# Altium footprint library ADM2582EBRWZ.PcbLib: 3 footprints
Each footprint in its own frame and in the unit in brackets; x right, y up, seen from the top. Pads: shape width x height; smd on the part's side, far side on the other; paste and mask are expansions set on the pad; w line width, h text height; cw(c..) or ccw(c..) is an arc to the next point about the centre after c.
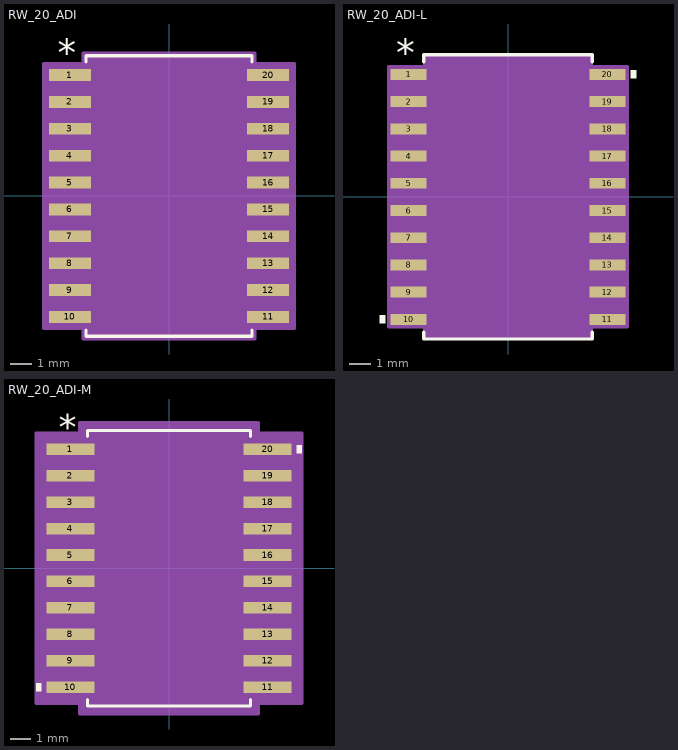
[diagram p0: the footprints below, top view; thin cyan lines are the x and y axes]

## RW_20_ADI [mil]
pads (20):
  rect 78x22 smd paste+0 mask+0: 1(-184.5,225) 2(-184.5,175) 3(-184.5,125) 4(-184.5,75) 5(-184.5,25) 6(-184.5,-25) 7(-184.5,-75) 8(-184.5,-125) 9(-184.5,-175) 10(-184.5,-225) 11(184.5,-225) 12(184.5,-175) 13(184.5,-125) 14(184.5,-75) 15(184.5,-25) 16(184.5,25) 17(184.5,75) 18(184.5,125) 19(184.5,175) 20(184.5,225)
Top Overlay:
  lines w6: -154.5,-249.1 -154.5,-261 154.5,-261 154.5,-249.1 ; -154.5,249.1 -154.5,261 154.5,261 154.5,249.1
  text "*" at -207,242 h50
Mechanical 13:
  lines w0: -12,256 ccw(c0,256) 12,256
  lines w1: -209.5,-235 -209.5,-215 -149.5,-215 -149.5,-235 -209.5,-235 ; -209.5,-185 -209.5,-165 -149.5,-165 -149.5,-185 -209.5,-185 ; -209.5,-135 -209.5,-115 -149.5,-115 -149.5,-135 -209.5,-135 ; -209.5,-85 -209.5,-65 -149.5,-65 -149.5,-85 -209.5,-85 ; -209.5,-35 -209.5,-15 -149.5,-15 -149.5,-35 -209.5,-35 ; -209.5,15 -209.5,35 -149.5,35 -149.5,15 -209.5,15 ; -209.5,65 -209.5,85 -149.5,85 -149.5,65 -209.5,65 ; -209.5,115 -209.5,135 -149.5,135 -149.5,115 -209.5,115 ; -209.5,165 -209.5,185 -149.5,185 -149.5,165 -209.5,165 ; -209.5,215 -209.5,235 -149.5,235 -149.5,215 -209.5,215 ; -149.5,-256 149.5,-256 149.5,256 -149.5,256 -149.5,-256 ; 149.5,-235 149.5,-215 209.5,-215 209.5,-235 149.5,-235 ; 149.5,-185 149.5,-165 209.5,-165 209.5,-185 149.5,-185 ; 149.5,-135 149.5,-115 209.5,-115 209.5,-135 149.5,-135 ; 149.5,-85 149.5,-65 209.5,-65 209.5,-85 149.5,-85 ; 149.5,-35 149.5,-15 209.5,-15 209.5,-35 149.5,-35 ; 149.5,15 149.5,35 209.5,35 209.5,15 149.5,15 ; 149.5,65 149.5,85 209.5,85 209.5,65 149.5,65 ; 149.5,115 149.5,135 209.5,135 209.5,115 149.5,115 ; 149.5,165 149.5,185 209.5,185 209.5,165 149.5,165 ; 149.5,215 149.5,235 209.5,235 209.5,215 149.5,215
  text "*" at -147,203 h50
Mechanical 15:
  region: -159.5,-246 -233.5,-246 -233.5,246 -159.5,246 -159.5,266 159.5,266 159.5,246 233.5,246 233.5,-246 159.5,-246 159.5,-266 -159.5,-266
  lines w6: -233.5,-246 -233.5,246 -159.5,246 -159.5,266 159.5,266 159.5,246 233.5,246 233.5,-246 159.5,-246 159.5,-266 -159.5,-266 -159.5,-246 -233.5,-246
3D body "RW_20_ADI.step": height 104.09, standoff 0, extent -209.49,-255.98 209.49,255.98

## RW_20_ADI-L [mil]
pads (20):
  rect 66x20 smd paste+0 mask+0: 1(-182.5,225) 2(-182.5,175) 3(-182.5,125) 4(-182.5,75) 5(-182.5,25) 6(-182.5,-25) 7(-182.5,-75) 8(-182.5,-125) 9(-182.5,-175) 10(-182.5,-225) 11(182.5,-225) 12(182.5,-175) 13(182.5,-125) 14(182.5,-75) 15(182.5,-25) 16(182.5,25) 17(182.5,75) 18(182.5,125) 19(182.5,175) 20(182.5,225)
Top Overlay:
  region: -225.5,-217.5 -235.5,-217.5 -235.5,-232.5 -225.5,-232.5
  region: 225.5,232.5 235.5,232.5 235.5,217.5 225.5,217.5
  lines w6: -154.5,-248.1 -154.5,-261 154.5,-261 154.5,-248.1 ; -154.5,248.1 -154.5,261 154.5,261 154.5,248.1
  text "*" at -205,240 h50
Mechanical 13:
  lines w0: -12,256 ccw(c0,256) 12,256
  lines w1: -209.5,-235 -209.5,-215 -149.5,-215 -149.5,-235 -209.5,-235 ; -209.5,-185 -209.5,-165 -149.5,-165 -149.5,-185 -209.5,-185 ; -209.5,-135 -209.5,-115 -149.5,-115 -149.5,-135 -209.5,-135 ; -209.5,-85 -209.5,-65 -149.5,-65 -149.5,-85 -209.5,-85 ; -209.5,-35 -209.5,-15 -149.5,-15 -149.5,-35 -209.5,-35 ; -209.5,15 -209.5,35 -149.5,35 -149.5,15 -209.5,15 ; -209.5,65 -209.5,85 -149.5,85 -149.5,65 -209.5,65 ; -209.5,115 -209.5,135 -149.5,135 -149.5,115 -209.5,115 ; -209.5,165 -209.5,185 -149.5,185 -149.5,165 -209.5,165 ; -209.5,215 -209.5,235 -149.5,235 -149.5,215 -209.5,215 ; -149.5,-256 149.5,-256 149.5,256 -149.5,256 -149.5,-256 ; 149.5,-235 149.5,-215 209.5,-215 209.5,-235 149.5,-235 ; 149.5,-185 149.5,-165 209.5,-165 209.5,-185 149.5,-185 ; 149.5,-135 149.5,-115 209.5,-115 209.5,-135 149.5,-135 ; 149.5,-85 149.5,-65 209.5,-65 209.5,-85 149.5,-85 ; 149.5,-35 149.5,-15 209.5,-15 209.5,-35 149.5,-35 ; 149.5,15 149.5,35 209.5,35 209.5,15 149.5,15 ; 149.5,65 149.5,85 209.5,85 209.5,65 149.5,65 ; 149.5,115 149.5,135 209.5,135 209.5,115 149.5,115 ; 149.5,165 149.5,185 209.5,185 209.5,165 149.5,165 ; 149.5,215 149.5,235 209.5,235 209.5,215 149.5,215
  text "*" at -147,203 h50
Mechanical 15:
  region: -153.5,-239 -219.5,-239 -219.5,239 -153.5,239 -153.5,260 153.5,260 153.5,239 219.5,239 219.5,-239 153.5,-239 153.5,-260 -153.5,-260
  lines w6: -219.5,-239 -219.5,239 -153.5,239 -153.5,260 153.5,260 153.5,239 219.5,239 219.5,-239 153.5,-239 153.5,-260 -153.5,-260 -153.5,-239 -219.5,-239
3D body "RW_20_ADI.step": height 104.09, standoff 0, extent -209.49,-255.98 209.49,255.98

## RW_20_ADI-M [mil]
pads (20):
  rect 90x22 smd paste+0 mask+0: 1(-186.5,225) 2(-186.5,175) 3(-186.5,125) 4(-186.5,75) 5(-186.5,25) 6(-186.5,-25) 7(-186.5,-75) 8(-186.5,-125) 9(-186.5,-175) 10(-186.5,-225) 11(186.5,-225) 12(186.5,-175) 13(186.5,-125) 14(186.5,-75) 15(186.5,-25) 16(186.5,25) 17(186.5,75) 18(186.5,125) 19(186.5,175) 20(186.5,225)
Top Overlay:
  region: -241.5,-217.5 -251.5,-217.5 -251.5,-232.5 -241.5,-232.5
  region: 241.5,232.5 251.5,232.5 251.5,217.5 241.5,217.5
  lines w6: -154.5,-249.1 -154.5,-261 154.5,-261 154.5,-249.1 ; -154.5,249.1 -154.5,261 154.5,261 154.5,249.1
  text "*" at -209,242 h50
Mechanical 13:
  lines w0: -12,256 ccw(c0,256) 12,256
  lines w1: -209.5,-235 -209.5,-215 -149.5,-215 -149.5,-235 -209.5,-235 ; -209.5,-185 -209.5,-165 -149.5,-165 -149.5,-185 -209.5,-185 ; -209.5,-135 -209.5,-115 -149.5,-115 -149.5,-135 -209.5,-135 ; -209.5,-85 -209.5,-65 -149.5,-65 -149.5,-85 -209.5,-85 ; -209.5,-35 -209.5,-15 -149.5,-15 -149.5,-35 -209.5,-35 ; -209.5,15 -209.5,35 -149.5,35 -149.5,15 -209.5,15 ; -209.5,65 -209.5,85 -149.5,85 -149.5,65 -209.5,65 ; -209.5,115 -209.5,135 -149.5,135 -149.5,115 -209.5,115 ; -209.5,165 -209.5,185 -149.5,185 -149.5,165 -209.5,165 ; -209.5,215 -209.5,235 -149.5,235 -149.5,215 -209.5,215 ; -149.5,-256 149.5,-256 149.5,256 -149.5,256 -149.5,-256 ; 149.5,-235 149.5,-215 209.5,-215 209.5,-235 149.5,-235 ; 149.5,-185 149.5,-165 209.5,-165 209.5,-185 149.5,-185 ; 149.5,-135 149.5,-115 209.5,-115 209.5,-135 149.5,-135 ; 149.5,-85 149.5,-65 209.5,-65 209.5,-85 149.5,-85 ; 149.5,-35 149.5,-15 209.5,-15 209.5,-35 149.5,-35 ; 149.5,15 149.5,35 209.5,35 209.5,15 149.5,15 ; 149.5,65 149.5,85 209.5,85 209.5,65 149.5,65 ; 149.5,115 149.5,135 209.5,135 209.5,115 149.5,115 ; 149.5,165 149.5,185 209.5,185 209.5,165 149.5,165 ; 149.5,215 149.5,235 209.5,235 209.5,215 149.5,215
  text "*" at -147,203 h50
Mechanical 15:
  region: -169.5,-256 -251.5,-256 -251.5,256 -169.5,256 -169.5,276 169.5,276 169.5,256 251.5,256 251.5,-256 169.5,-256 169.5,-276 -169.5,-276
  lines w6: -251.5,-256 -251.5,256 -169.5,256 -169.5,276 169.5,276 169.5,256 251.5,256 251.5,-256 169.5,-256 169.5,-276 -169.5,-276 -169.5,-256 -251.5,-256
3D body "RW_20_ADI.step": height 104.09, standoff 0, extent -209.49,-255.98 209.49,255.98